# EAGLE library part STD020M06X1 (library con-pinheader-standard)
male standard header 2mm
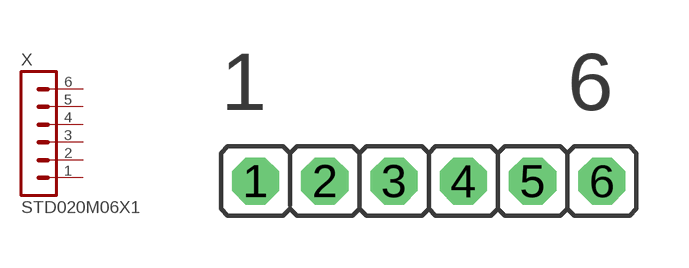
[diagram p35: symbol with the pads of STD020M06X1-2.00; footprint STD020M06X1-2.00]

Designator prefix X

## STD020M06X1-2.00MM  [STD020M06X1-2.00]
1  1  pas
2  2  pas
3  3  pas
4  4  pas
5  5  pas
6  6  pas

## Footprint STD020M06X1-2.00 (pad centres in mm)
male standard header 2mm
drill 0.85 octagon: 1 -5,0; 2 -3,0; 3 -1,0; 4 1,0; 5 3,0; 6 5,0